# Altium footprint library SnapEDApcb.PcbLib: 1 footprints
Each footprint in its own frame and in the unit in brackets; x right, y up, seen from the top. Pads: shape width x height; smd on the part's side, far side on the other; paste and mask are expansions set on the pad; w line width, h text height; cw(c..) or ccw(c..) is an arc to the next point about the centre after c.
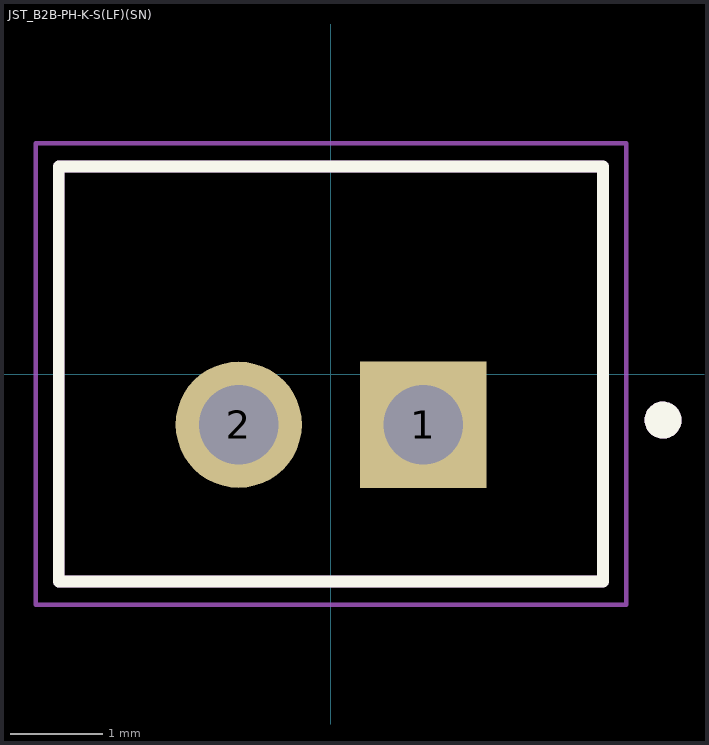
[diagram p0: the footprint, top view; thin cyan lines are the x and y axes]

## JST_B2B-PH-K-S(LF)(SN) [mm]
pads (2):
  rect 1.368x1.368 hole 0.86: 1(1,-0.55)
  round 1.368 hole 0.86: 2(-1,-0.55)
Top Overlay:
  circle w0.2: c3.6,-0.5 r0.1
  lines w0.127: -2.95,-2.25 -2.95,2.25 2.95,2.25 2.95,-2.25 -2.95,-2.25
Mechanical 13:
  circle w0.2: c3.6,-0.5 r0.1
  lines w0.127: -2.95,-2.25 2.95,-2.25 2.95,2.25 -2.95,2.25 -2.95,-2.25
Mechanical 15:
  lines w0.05: -3.2,-2.5 3.2,-2.5 3.2,2.5 -3.2,2.5 -3.2,-2.5